# Altium schematic symbol library FS8205A.SchLib: 1 symbol
Pins are listed as number, name and electrical type; pins without a type are passive.

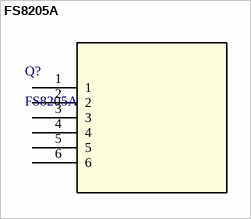
[diagram p0: symbol FS8205A]

## FS8205A
designator Q?
Description; Manufacturer_Name: Tech Public; Copyright: Copyright (C) 2025 Ultra Librarian. All rights reserved.; Manufacturer_Part_Number: FS8205A; RefDes: RefDes; Type: Type
footprint SOT-23-6L_TCP
pins: 1, 2, 3, 4, 5, 6